# Altium footprint library SHDR10W100P0X500_1X10_5000X900X1250P.PcbLib: 1 footprints
Each footprint in its own frame and in the unit in brackets; x right, y up, seen from the top. Pads: shape width x height; smd on the part's side, far side on the other; paste and mask are expansions set on the pad; w line width, h text height; cw(c..) or ccw(c..) is an arc to the next point about the centre after c.
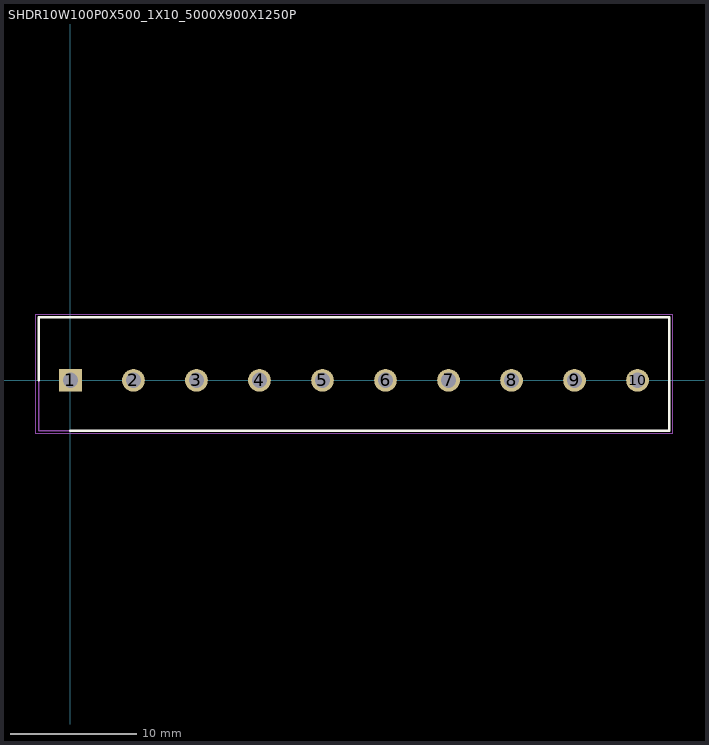
[diagram p0: the footprint, top view; thin cyan lines are the x and y axes]

## SHDR10W100P0X500_1X10_5000X900X1250P [mm]
pads (10):
  rect 1.8x1.8 / inner round 1.8 / far side rect 1.8x1.8 hole 1.2: 1(0,0)
  round 1.8 hole 1.2: 2(5,0) 3(10,0) 4(15,0) 5(20,0) 6(25,0) 7(30,0) 8(35,0) 9(40,0) 10(45,0)
Top Overlay:
  lines w0.2: -2.5,0 -2.5,5 47.5,5 47.5,-4 0,-4
Mechanical 15:
  lines w0.1: -2.5,-4 -2.5,5 47.5,5 47.5,-4 -2.5,-4
Mechanical 20:
  lines w0.05: -2.75,-4.25 -2.75,5.25 47.75,5.25 47.75,-4.25 -2.75,-4.25
3D body "TB001-500-10BE.stp": height 5.8, standoff -4.65, extent -10,-3.376 10,3.376